# EAGLE library part STM32F303CB (library SPEAR-general)
STM32F303CBT 32-bit microcontroller in an LQFP48 package - 128Kbytes flash.
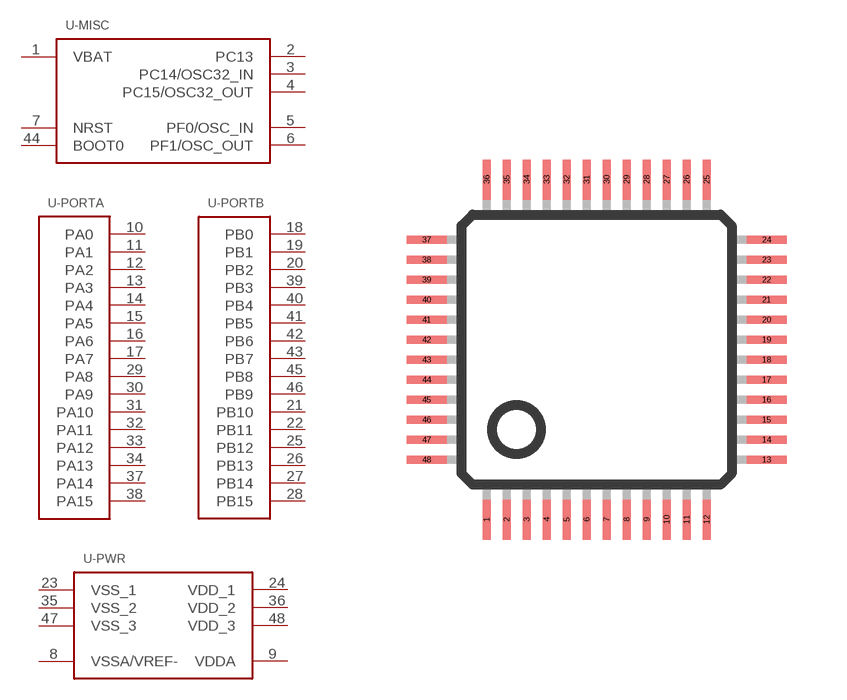
[diagram p3: symbol with the pads of LQFP48; footprint LQFP48]

Designator prefix U; gates -MISC=STM32F303CB-MISC -PORTA=STM32F303CB-PORTA -PORTB=STM32F303CB-PORTB -PWR=STM32F303CB-PWR

## STM32F303CB  [LQFP48]
1  -MISC:VBAT
2  -MISC:PC13
3  -MISC:PC14/OSC32_IN
4  -MISC:PC15/OSC32_OUT
5  -MISC:PF0/OSC_IN
6  -MISC:PF1/OSC_OUT
7  -MISC:NRST
8  -PWR:VSSA/VREF-
9  -PWR:VDDA
10  -PORTA:PA0
11  -PORTA:PA1
12  -PORTA:PA2
13  -PORTA:PA3
14  -PORTA:PA4
15  -PORTA:PA5
16  -PORTA:PA6
17  -PORTA:PA7
18  -PORTB:PB0
19  -PORTB:PB1
20  -PORTB:PB2
21  -PORTB:PB10
22  -PORTB:PB11
23  -PWR:VSS_1
24  -PWR:VDD_1
25  -PORTB:PB12
26  -PORTB:PB13
27  -PORTB:PB14
28  -PORTB:PB15
29  -PORTA:PA8
30  -PORTA:PA9
31  -PORTA:PA10
32  -PORTA:PA11
33  -PORTA:PA12
34  -PORTA:PA13
35  -PWR:VSS_2
36  -PWR:VDD_2
37  -PORTA:PA14
38  -PORTA:PA15
39  -PORTB:PB3
40  -PORTB:PB4
41  -PORTB:PB5
42  -PORTB:PB6
43  -PORTB:PB7
44  -MISC:BOOT0
45  -PORTB:PB8
46  -PORTB:PB9
47  -PWR:VSS_3
48  -PWR:VDD_3

## Footprint LQFP48 (pad centres in mm)
48-pin plastic LQFP (FPT-48P-M26) www.fma.fujitsu.com/pdf/e713717.pdf
smd 0.2 x 1: 1 -2.75,-4.25; 2 -2.25,-4.25; 3 -1.75,-4.25; 4 -1.25,-4.25; 5 -0.75,-4.25; 6 -0.25,-4.25; 7 0.25,-4.25; 8 0.75,-4.25; 9 1.25,-4.25; 10 1.75,-4.25; 11 2.25,-4.25; 12 2.75,-4.25; 25 2.75,4.25; 26 2.25,4.25; 27 1.75,4.25; 28 1.25,4.25; 29 0.75,4.25; 30 0.25,4.25; 31 -0.25,4.25; 32 -0.75,4.25; 33 -1.25,4.25; 34 -1.75,4.25; 35 -2.25,4.25; 36 -2.75,4.25
smd 1 x 0.2: 13 4.25,-2.75; 14 4.25,-2.25; 15 4.25,-1.75; 16 4.25,-1.25; 17 4.25,-0.75; 18 4.25,-0.25; 19 4.25,0.25; 20 4.25,0.75; 21 4.25,1.25; 22 4.25,1.75; 23 4.25,2.25; 24 4.25,2.75; 37 -4.25,2.75; 38 -4.25,2.25; 39 -4.25,1.75; 40 -4.25,1.25; 41 -4.25,0.75; 42 -4.25,0.25; 43 -4.25,-0.25; 44 -4.25,-0.75; 45 -4.25,-1.25; 46 -4.25,-1.75; 47 -4.25,-2.25; 48 -4.25,-2.75